# Altium schematic symbol library FlashBlaster.SCHLIB: 7 symbols
Pins are listed as number, name and electrical type; pins without a type are passive.

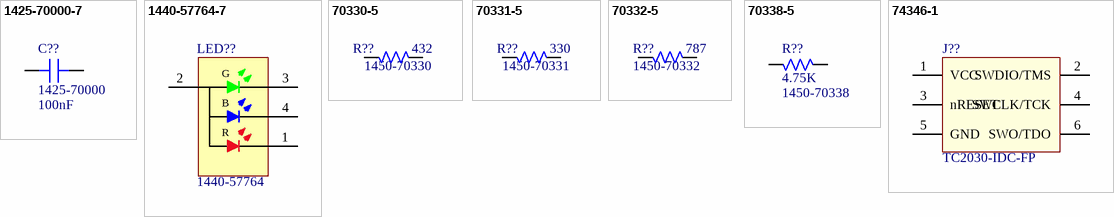
[diagram p0: symbols 1425-70000-7 to 74346-1]

## 1425-70000-7
designator C??, comment value 100nF  Rockford Part Number: 1425-70000  (hidden comment: CAP CER 0.1UF 25V X7R 0402)
Manufacturer 1: Samsung; Manufacturer Part Number 1: CL05B104KA5NNNC; Tolerance: 10%; Component Type: Capacitor
simulation model SIM-0003-1 (Generic Capacitor Simulation)
footprint 0402 Capacitor, IPC High
pins: 1, 2

## 1440-57764-7
designator LED??, comment Rockford Part Number: 1440-57764  (hidden comment: 3X1MM LOW CURRENT RIGHT ANGLE RGB SMD LED)
Manufacturer 1: KINGBRIGHT; Manufacturer Part Number 1: APFA3010-ARC92; Manufacturer 2: YEEDON; Manufacturer Part Number 2: Y-SP1204RGBC3UDA; Component Type: LED
footprint 3X1MM RT ANGLE RGB LED SMD
pins: 1 R, 2 A, 3 G, 4 B

## 70330-5
designator R??, comment value 432  Rockford Part Number: 1450-70330  (hidden comment: RES SMD 432 OHM 1% 1/16W 0402)
Manufacturer 1: Yageo; Manufacturer Part Number 1: RC0402FR-07432RL; Tolerance: 1%; Component Type: Resistor
simulation model SIM-0001-1 (Generic  Resistor)
footprint 0402 Resistor, IPC High
pins: 1, 2
1 alternate drawing of the same symbol

## 70331-5
designator R??, comment value 330  Rockford Part Number: 1450-70331  (hidden comment: RES SMD 330 OHM 1% 1/16W 040)
Manufacturer 1: Vishay; Manufacturer Part Number 1: CRCW0402330RFKED; Tolerance: 1%; Manufacturer 2: YAGEO; Manufacturer Part Number 2: RC0402FR-07330RL; Component Type: Resistor
simulation model SIM-0001-1 (Generic  Resistor)
footprint 0402 Resistor, IPC High
pins: 1, 2
1 alternate drawing of the same symbol

## 70332-5
designator R??, comment value 787  Rockford Part Number: 1450-70332  (hidden comment: RES SMD 787 OHM 1% 1/16W 0402)
Manufacturer 1: Vishay; Manufacturer Part Number 1: CRCW0402787RFKED; Tolerance: 1%; Manufacturer 2: YAGEO; Manufacturer Part Number 2: RC0402FR-07787RL; Component Type: Resistor
simulation model SIM-0001-1 (Generic  Resistor)
footprint 0402 Resistor, IPC High
pins: 1, 2
1 alternate drawing of the same symbol

## 70338-5
designator R??, comment value 4.75K  Rockford Part Number: 1450-70338  (hidden comment: RES SMD 4.75K OHM 1% 1/16W 0402)
Manufacturer 1: Vishay Dale; Manufacturer Part Number 1: CRCW04024K75FKTD; Tolerance: 1%; Manufacturer 2: YAGEO; Manufacturer Part Number 2: RC0402FR-074K75L; Component Type: Resistor
simulation model SIM-0001-1 (Generic  Resistor)
footprint 0402 Resistor, IPC High
pins: 1, 2
1 alternate drawing of the same symbol

## 74346-1
designator J??, comment value TC2030-IDC-FP  (hidden comment: TC2030-IDC PLUG-OF-NAILS)
Rockford Part Number: 1565-74346; Manufacturer 1: Tag-Connect; Manufacturer Part Number 1: TC2030-IDC; Component Type: Connector
footprint TC2030-IDC 6PIN PLUG OF NAILS
pins: 1 VCC, 2 SWDIO/TMS, 3 nRESET, 4 SWCLK/TCK, 5 GND, 6 SWO/TDO